# EAGLE library part MAX3051 (library custom-devices)
CAN Transceiver
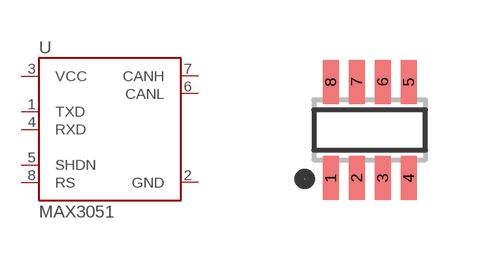
[diagram p18: symbol with the pads of SOT23-8; footprint SOT23-8]

Designator prefix U

## MAX3051 (DIGI-KEY: MAX3051EKA+TCT-ND; MOUSER: 700-MAX3051EKAT; TEMPERATURE: -40°C to 85°C)  [SOT23-8]
1  TXD
2  GND
3  VCC
4  RXD
5  SHDN
6  CANL
7  CANH
8  RS

## Footprint SOT23-8 (pad centres in mm)
Small Outline Transistor - 8 Pin
smd 0.4 x 1.1: 1 -0.975,-1.204; 2 -0.325,-1.204; 3 0.325,-1.204; 4 0.975,-1.204; 5 0.975,1.204; 6 0.325,1.204; 7 -0.325,1.204; 8 -0.975,1.204